# Altium footprint library 1-1734346-1.PcbLib: 1 footprints
Each footprint in its own frame and in the unit in brackets; x right, y up, seen from the top. Pads: shape width x height; smd on the part's side, far side on the other; paste and mask are expansions set on the pad; w line width, h text height; cw(c..) or ccw(c..) is an arc to the next point about the centre after c.
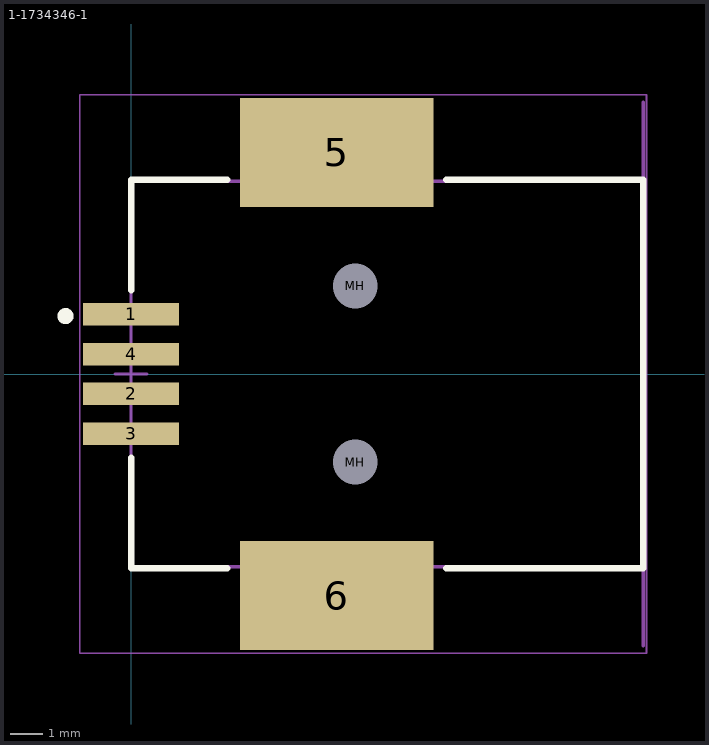
[diagram p0: the footprint, top view; thin cyan lines are the x and y axes]

## 1-1734346-1 [mm]
pads (8):
  rect 3x0.7 smd: 1(0,1.87) 2(0,-0.62) 3(0,-1.87) 4(0,0.62)
  rect 6.04x3.4 smd: 5(6.42,6.92) 6(6.42,-6.92)
  round 0.6 hole 1.4 unplated: MH(7,-2.75) MH(7,2.75)
Top Overlay:
  circle w0.25: c-2.05,1.808 r0.125
  lines w0.2: 0,-2.62 0,-6.07 3,-6.07 ; 0,2.62 0,6.07 3,6.07 ; 9.84,-6.07 16,-6.07 16,6.07 9.84,6.07
Mechanical 1:
  lines w0.1: 16,-8.5 16,8.5
  text "Board Edge" at 16.891,-3.048 h0.5
Mechanical 13:
  lines w0.1: 0,-6.02 0,6.02 16,6.02 16,-6.02 0,-6.02
Mechanical 15:
  lines w0.05: -1.6,-8.72 -1.6,8.72 16.1,8.72 16.1,-8.72 -1.6,-8.72
  lines w0.1: -0.5,0 0.5,0 ; 0,-0.5 0,0.5
3D body "1-1734346-1.stp": height 11.31, standoff -1.11, extent -1.225,-8.25 15.875,8.25